# Altium footprint library Footprints.PcbLib: 132 footprints (part 5 of 9)
Each footprint in its own frame and in the unit in brackets; x right, y up, seen from the top. Pads: shape width x height; smd on the part's side, far side on the other; paste and mask are expansions set on the pad; w line width, h text height; cw(c..) or ccw(c..) is an arc to the next point about the centre after c.
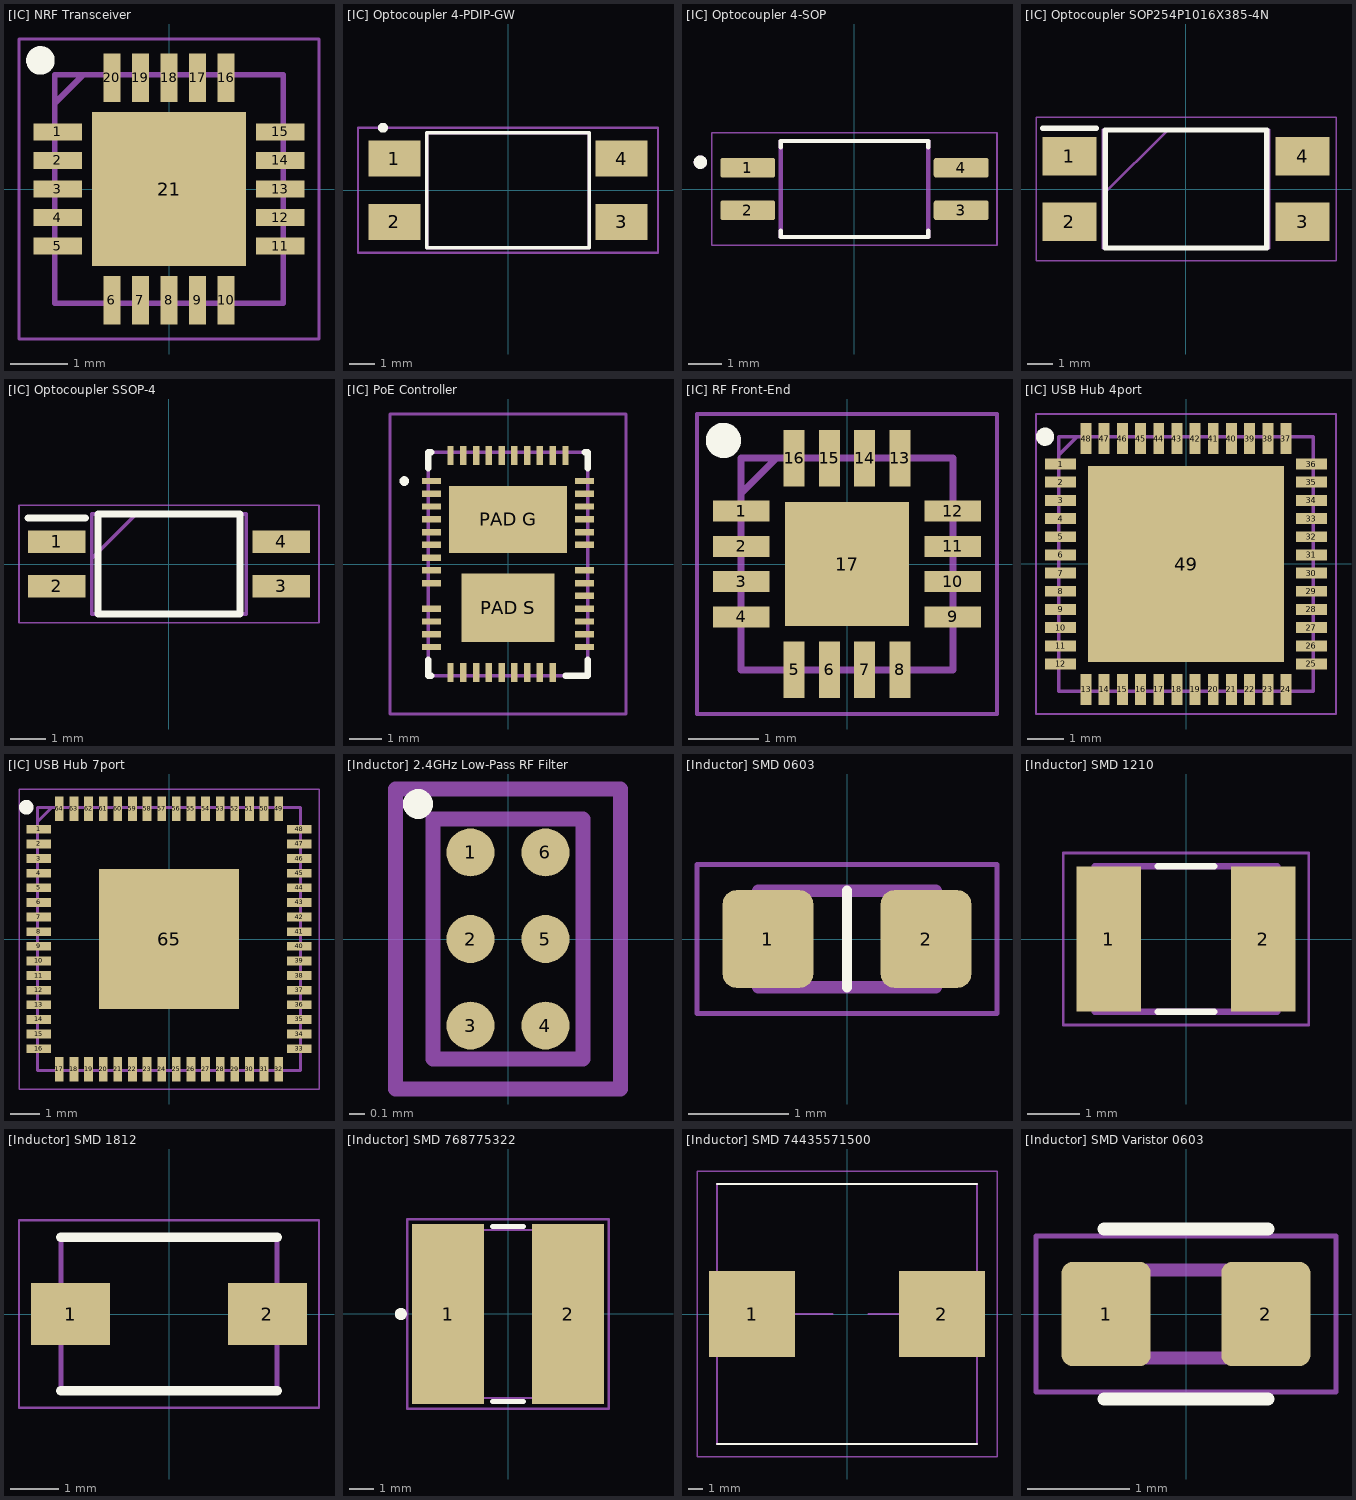
[diagram p4: the footprints below, top view; thin cyan lines are the x and y axes]

## [IC] NRF Transceiver [mm] "NRF24L01P-R"
pads (21):
  rect 0.85x0.3 smd: 1(-1.95,1) 2(-1.95,0.5) 3(-1.95,0) 4(-1.95,-0.5) 5(-1.95,-1) 11(1.95,-1) 12(1.95,-0.5) 13(1.95,0) 14(1.95,0.5) 15(1.95,1)
  rect 0.3x0.85 smd: 6(-1,-1.95) 7(-0.5,-1.95) 8(0,-1.95) 9(0.5,-1.95) 10(1,-1.95) 16(1,1.95) 17(0.5,1.95) 18(0,1.95) 19(-0.5,1.95) 20(-1,1.95)
  rect 2.7x2.7 smd: 21(0,0)
Top Overlay:
  circle w0.25: c-2.25,2.25 r0.125
Physical Outline:
  lines w0.1: -2,1.5 -1.5,2 ; -2,-2 2,-2 2,2 -2,2 -2,-2
Part Border:
  lines w0.05: -2.625,-2.625 2.625,-2.625 2.625,2.625 -2.625,2.625 -2.625,-2.625
3D body "NRF24L01P-R.stp": height 0.95, standoff 0, extent -2.05,-2.05 2.05,2.05

## [IC] Optocoupler 4-PDIP-GW [mm] "4-PDIP-GW"
pads (4):
  rect 2.09x1.44 smd: 1(-4.54,1.27) 2(-4.54,-1.27) 3(4.54,-1.27) 4(4.54,1.27)
Top Overlay:
  circle w0.2: c-5,2.5 r0.1
  lines w0.127: -3.25,-2.3 -3.25,2.3 3.25,2.3 3.25,-2.3 -3.25,-2.3
Physical Outline:
  lines w0.127: -3.25,-2.3 -3.25,2.3 3.25,2.3 3.25,-2.3 -3.25,-2.3
Part Border:
  lines w0.1: -6,-2.5 -6,2.5 6,2.5 6,-2.5 -6,-2.5
3D body "[IC] Optocoupler 4-PDIP-GW.STEP": height 3.85, standoff 0, extent -5.08,-2.3 5.08,2.3

## [IC] Optocoupler 4-SOP [mm] "4-SOP"
pads (4):
  rrect25% 1.64x0.59 smd: 1(-3.185,0.635) 2(-3.185,-0.635) 3(3.185,-0.635) 4(3.185,0.635)
Top Overlay:
  circle w0.2: c-4.6,0.8 r0.1
  lines w0.127: -2.2,-1.245 -2.2,-1.43 2.2,-1.43 2.2,-1.245 ; -2.2,1.245 -2.2,1.43 2.2,1.43 2.2,1.245
Physical Outline:
  circle w0.2: c-4.6,0.8 r0.1
  lines w0.127: -2.2,-1.43 2.2,-1.43 2.2,1.43 -2.2,1.43 -2.2,-1.43
Part Border:
  lines w0.05: -4.255,-1.68 4.255,-1.68 4.255,1.68 -4.255,1.68 -4.255,-1.68
3D body "step_temp.STEP": height 2.1, standoff 0, extent -3.5,-1.3 3.5,1.3

## [IC] Optocoupler SOP254P1016X385-4N [mm] "SOP254P1016X385-4N"
pads (4):
  rect 2.1x1.5 smd: 1(-4.55,1.27) 2(-4.55,-1.27) 3(4.55,-1.27) 4(4.55,1.27)
Top Overlay:
  lines w0.2: -5.6,2.37 -3.5,2.37 ; -3.15,-2.3 3.15,-2.3 3.15,2.3 -3.15,2.3 -3.15,-2.3
Physical Outline:
  lines w0.1: -3.25,-0.24 -0.71,2.3 ; -3.25,-2.3 3.25,-2.3 3.25,2.3 -3.25,2.3 -3.25,-2.3
Part Border:
  lines w0.05: -5.85,-2.8 5.85,-2.8 5.85,2.8 -5.85,2.8 -5.85,-2.8
3D body "FOD817DSD.stp": height 3.85, standoff 0, extent -5.08,-2.3 5.08,2.3

## [IC] Optocoupler SSOP-4 [mm] "SSOP-4"
pads (4):
  rect 1.65x0.65 smd: 1(-3.2,0.635) 2(-3.2,-0.635) 3(3.2,-0.635) 4(3.2,0.635)
Top Overlay:
  lines w0.2: -4.025,1.31 -2.375,1.31 ; -2.025,-1.425 2.025,-1.425 2.025,1.425 -2.025,1.425 -2.025,-1.425
Physical Outline:
  lines w0.1: -2.2,0.155 -0.93,1.425 ; -2.2,-1.425 2.2,-1.425 2.2,1.425 -2.2,1.425 -2.2,-1.425
Part Border:
  lines w0.05: -4.275,-1.675 4.275,-1.675 4.275,1.675 -4.275,1.675 -4.275,-1.675
3D body "Optocoupler TCMT1107.stp": height 2.1, standoff 0, extent -3.5,-1.3 3.5,1.3

## [IC] PoE Controller [mm] "TPS23730RMTR"
pads (47):
  rect 0.6x0.2 smd: 1(-2.4,2.6) 2(-2.4,2.2) 3(-2.4,1.8) 4(-2.4,1.4) 5(-2.4,1) 6(-2.4,0.6) 7(-2.4,0.2) 8(-2.4,-0.2) 9(-2.4,-0.6) 10(-2.4,-1.4) 11(-2.4,-1.8) 12(-2.4,-2.2) 13(-2.4,-2.6) 23(2.4,-2.6) 24(2.4,-2.2) 25(2.4,-1.8) 26(2.4,-1.4) 27(2.4,-1) 28(2.4,-0.6) 29(2.4,-0.2) 30(2.4,0.6) 31(2.4,1) 32(2.4,1.4) 33(2.4,1.8) 34(2.4,2.2) 35(2.4,2.6)
  rect 0.2x0.6 smd: 14(-1.8,-3.4) 15(-1.4,-3.4) 16(-1,-3.4) 17(-0.6,-3.4) 18(-0.2,-3.4) 19(0.2,-3.4) 20(0.6,-3.4) 21(1,-3.4) 22(1.4,-3.4) 36(1.8,3.4) 37(1.4,3.4) 38(1,3.4) 39(0.6,3.4) 40(0.2,3.4) 41(-0.2,3.4) 42(-0.6,3.4) 43(-1,3.4) 44(-1.4,3.4) 45(-1.8,3.4)
  rect 3.7x2.1 smd: "PAD G"(0,1.4)
  rect 2.9x2.15 smd: "PAD S"(0,-1.375)
Top Overlay:
  lines w0.2: -2.5,-3 -2.5,-3.5 -2.4,-3.5 ; -2.5,3 -2.5,3.5 -2.4,3.5 ; 1.8,-3.5 2.5,-3.5 2.5,-3 ; 2.4,3.5 2.5,3.5 2.5,3 ; -3.3,2.6 ccw(c-3.25,2.6) -3.2,2.6 ; -3.3,2.6 cw(c-3.25,2.6) -3.2,2.6 ; -3.3,2.6 ccw(c-3.25,2.6) -3.2,2.6
Physical Outline:
  lines w0.1: -2.5,-3.5 2.5,-3.5 2.5,3.5 -2.5,3.5 -2.5,-3.5
Part Border:
  lines w0.1: -3.7,-4.7 3.7,-4.7 3.7,4.7 -3.7,4.7 -3.7,-4.7
3D body "TPS23730RMTR.stp": height 1, standoff 0, extent -2.5,-3.5 2.5,3.5

## [IC] RF Front-End [mm] "RFX2401C"
pads (17):
  rect 0.8x0.3 smd: 1(-1.5,0.75) 2(-1.5,0.25) 3(-1.5,-0.25) 4(-1.5,-0.75) 9(1.5,-0.75) 10(1.5,-0.25) 11(1.5,0.25) 12(1.5,0.75)
  rect 0.3x0.8 smd: 5(-0.75,-1.5) 6(-0.25,-1.5) 7(0.25,-1.5) 8(0.75,-1.5) 13(0.75,1.5) 14(0.25,1.5) 15(-0.25,1.5) 16(-0.75,1.5)
  rect 1.75x1.75 smd: 17(0,0)
Top Overlay:
  circle w0.25: c-1.75,1.75 r0.125
Physical Outline:
  lines w0.1: -1.5,1 -1,1.5 ; -1.5,-1.5 1.5,-1.5 1.5,1.5 -1.5,1.5 -1.5,-1.5
Part Border:
  lines w0.05: -2.125,-2.125 2.125,-2.125 2.125,2.125 -2.125,2.125 -2.125,-2.125
3D body "RFX2401C.stp": height 0.6, standoff 0, extent -1.55,-1.55 1.55,1.55

## [IC] USB Hub 4port [mm] "USB4715T-I/Y9X"
pads (49):
  rect 0.85x0.3 smd: 1(-3.45,2.75) 2(-3.45,2.25) 3(-3.45,1.75) 4(-3.45,1.25) 5(-3.45,0.75) 6(-3.45,0.25) 7(-3.45,-0.25) 8(-3.45,-0.75) 9(-3.45,-1.25) 10(-3.45,-1.75) 11(-3.45,-2.25) 12(-3.45,-2.75) 25(3.45,-2.75) 26(3.45,-2.25) 27(3.45,-1.75) 28(3.45,-1.25) 29(3.45,-0.75) 30(3.45,-0.25) 31(3.45,0.25) 32(3.45,0.75) 33(3.45,1.25) 34(3.45,1.75) 35(3.45,2.25) 36(3.45,2.75)
  rect 0.3x0.85 smd: 13(-2.75,-3.45) 14(-2.25,-3.45) 15(-1.75,-3.45) 16(-1.25,-3.45) 17(-0.75,-3.45) 18(-0.25,-3.45) 19(0.25,-3.45) 20(0.75,-3.45) 21(1.25,-3.45) 22(1.75,-3.45) 23(2.25,-3.45) 24(2.75,-3.45) 37(2.75,3.45) 38(2.25,3.45) 39(1.75,3.45) 40(1.25,3.45) 41(0.75,3.45) 42(0.25,3.45) 43(-0.25,3.45) 44(-0.75,3.45) 45(-1.25,3.45) 46(-1.75,3.45) 47(-2.25,3.45) 48(-2.75,3.45)
  rect 5.4x5.4 smd: 49(0,0)
Top Overlay:
  circle w0.25: c-3.875,3.5 r0.125
Physical Outline:
  lines w0.1: -3.5,3 -3,3.5 ; -3.5,-3.5 3.5,-3.5 3.5,3.5 -3.5,3.5 -3.5,-3.5
Part Border:
  lines w0.05: -4.125,-4.125 4.125,-4.125 4.125,4.125 -4.125,4.125 -4.125,-4.125
3D body "USB4715T-I_Y9X.stp": height 1, standoff 0, extent -3.55,-3.55 3.55,3.55

## [IC] USB Hub 7port [mm] "USB2517-JZX"
pads (65):
  rect 0.85x0.3 smd: 1(-4.45,3.75) 2(-4.45,3.25) 3(-4.45,2.75) 4(-4.45,2.25) 5(-4.45,1.75) 6(-4.45,1.25) 7(-4.45,0.75) 8(-4.45,0.25) 9(-4.45,-0.25) 10(-4.45,-0.75) 11(-4.45,-1.25) 12(-4.45,-1.75) 13(-4.45,-2.25) 14(-4.45,-2.75) 15(-4.45,-3.25) 16(-4.45,-3.75) 33(4.45,-3.75) 34(4.45,-3.25) 35(4.45,-2.75) 36(4.45,-2.25) 37(4.45,-1.75) 38(4.45,-1.25) 39(4.45,-0.75) 40(4.45,-0.25) 41(4.45,0.25) 42(4.45,0.75) 43(4.45,1.25) 44(4.45,1.75) 45(4.45,2.25) 46(4.45,2.75) 47(4.45,3.25) 48(4.45,3.75)
  rect 0.3x0.85 smd: 17(-3.75,-4.45) 18(-3.25,-4.45) 19(-2.75,-4.45) 20(-2.25,-4.45) 21(-1.75,-4.45) 22(-1.25,-4.45) 23(-0.75,-4.45) 24(-0.25,-4.45) 25(0.25,-4.45) 26(0.75,-4.45) 27(1.25,-4.45) 28(1.75,-4.45) 29(2.25,-4.45) 30(2.75,-4.45) 31(3.25,-4.45) 32(3.75,-4.45) 49(3.75,4.45) 50(3.25,4.45) 51(2.75,4.45) 52(2.25,4.45) 53(1.75,4.45) 54(1.25,4.45) 55(0.75,4.45) 56(0.25,4.45) 57(-0.25,4.45) 58(-0.75,4.45) 59(-1.25,4.45) 60(-1.75,4.45) 61(-2.25,4.45) 62(-2.75,4.45) 63(-3.25,4.45) 64(-3.75,4.45)
  rect 4.8x4.8 smd: 65(0,0)
Top Overlay:
  circle w0.25: c-4.875,4.5 r0.125
Physical Outline:
  lines w0.1: -4.5,4 -4,4.5 ; -4.5,-4.5 -4.5,4.5 4.5,4.5 4.5,-4.5 -4.5,-4.5
Part Border:
  lines w0.05: -5.125,-5.125 -5.125,5.125 5.125,5.125 5.125,-5.125 -5.125,-5.125
3D body "USB2517-JZX.stp": height 1, standoff 0, extent -4.55,-4.55 4.55,4.55

## [Inductor] 2.4GHz Low-Pass RF Filter [mm] "MLPF-NRG-01D3"
pads (6):
  round 0.32 smd: 1(-0.25,0.577) 2(-0.25,0) 3(-0.25,-0.577) 4(0.25,-0.577) 5(0.25,0) 6(0.25,0.577)
Top Overlay:
  circle w0.1: c-0.6,0.9 r0.05
Physical Outline:
  lines w0.1: -0.5,-0.8 -0.5,0.8 0.5,0.8 0.5,-0.8 -0.5,-0.8
Part Border:
  lines w0.1: -0.75,-1 -0.75,1 0.75,1 0.75,-1 -0.75,-1
3D body "MLPF-NRG-01D3.stp": height 0.63, standoff 0, extent -0.5,-0.801 0.5,0.801

## [Inductor] SMD 0603 [mm]
pads (2):
  rrect30% 0.9x0.97 smd: 1(-0.785,0) 2(0.785,0)
Top Overlay:
  lines w0.1: 0,-0.48 0,0.48
Physical Outline:
  lines w0.127: -0.88,-0.48 -0.88,0.48 0.88,0.48 0.88,-0.48 -0.88,-0.48
Part Border:
  lines w0.05: -1.49,-0.74 1.49,-0.74 1.49,0.74 -1.49,0.74 -1.49,-0.74
3D body "SMD Inductor [0603].STEP": height 0.95, standoff 0, extent -0.8,-0.4 0.8,0.4

## [Inductor] SMD 1210 [mm]
pads (2):
  rect 1.23x2.76 smd: 1(-1.466,0) 2(1.466,0)
Top Overlay:
  lines w0.127: -0.53,-1.38 0.53,-1.38 ; -0.53,1.38 0.53,1.38
Physical Outline:
  lines w0.127: -1.73,-1.38 -1.73,1.38 1.73,1.38 1.73,-1.38 -1.73,-1.38
Part Border:
  lines w0.05: -2.331,-1.631 -2.331,1.631 2.331,1.631 2.331,-1.631 -2.331,-1.631
3D body "SMD Resistor [1210].STEP": height 0.6, standoff 0, extent -1.6,-1.25 1.6,1.25

## [Inductor] SMD 1812 [mm]
pads (2):
  rect 1.65x1.3 smd: 1(-2.05,0) 2(2.05,0)
Top Overlay:
  lines w0.2: -2.25,-1.6 2.25,-1.6 ; -2.25,1.6 2.25,1.6
Physical Outline:
  lines w0.1: -2.25,-1.6 2.25,-1.6 2.25,1.6 -2.25,1.6 -2.25,-1.6
Part Border:
  lines w0.05: -3.125,-1.952 3.125,-1.952 3.125,1.952 -3.125,1.952 -3.125,-1.952
3D body "ISC1812ER101J.stp": height 3.4, standoff 0, extent -2.25,-1.6 2.25,1.6

## [Inductor] SMD 768775322 [mm] "768775322"
pads (2):
  rect 3x7.5 smd: 1(-2.5,0) 2(2.5,0)
Top Overlay:
  circle w0.25: c-4.466,0 r0.125
  lines w0.2: -0.65,-3.65 0.65,-3.65 ; -0.65,3.65 0.65,3.65
Physical Outline:
  circle w0.1: c-3.2,0 r0.3
  lines w0.1: -1.744,-3.488 cw(c0,0) -1.719,3.5 1.719,3.5 ; -1.719,-3.5 1.719,-3.5 ; 1.719,3.5 cw(c0,0) 1.744,-3.488
Part Border:
  lines w0.1: -4.2,-3.95 -4.2,3.95 4.2,3.95 4.2,-3.95 -4.2,-3.95
3D body "IndPD2HV_7850.stp": height 4.9, standoff 0, extent -3.813,-3.5 3.813,3.5

## [Inductor] SMD 74435571500 [mm]
pads (2):
  rect 6x6 smd: 1(-6.65,0) 2(6.65,0)
Top Overlay:
  lines w0.127: -9.1,-9.1 9.1,-9.1 ; -9.1,9.1 9.1,9.1
Physical Outline:
  lines w0.127: -9.1,-9.1 -9.1,9.1 ; -6.5,0 -1,0 ; 1.5,0 6,0 ; 9.1,-9.1 9.1,9.1
Part Border:
  lines w0.1: -10.5,-10 -10.5,10 10.5,10 10.5,-10 -10.5,-10
3D body "74435571500.stp": height 8.9, standoff 0, extent -9.15,-9.1 9.15,9.1

## [Inductor] SMD Varistor 0603 [mm] "CG0603MLC-05E"
pads (2):
  rrect25% 0.87x1.02 smd: 1(-0.78,0) 2(0.78,0)
Top Overlay:
  lines w0.127: -0.8,-0.83 0.8,-0.83 ; -0.8,0.83 0.8,0.83
Physical Outline:
  lines w0.127: -0.8,-0.43 0.8,-0.43 0.8,0.43 -0.8,0.43 -0.8,-0.43
Part Border:
  lines w0.05: -1.465,-0.76 -1.465,0.76 1.465,0.76 1.465,-0.76 -1.465,-0.76
3D body "SMD Varistor [0603].STEP": height 0.53, standoff -0.03, extent -0.8,-0.4 0.8,0.4